# Altium footprint library ALTAIR_PD_ChipPassives.PcbLib: 20 footprints (part 2 of 2)
Each footprint in its own frame and in the unit in brackets; x right, y up, seen from the top. Pads: shape width x height; smd on the part's side, far side on the other; paste and mask are expansions set on the pad; w line width, h text height; cw(c..) or ccw(c..) is an arc to the next point about the centre after c.
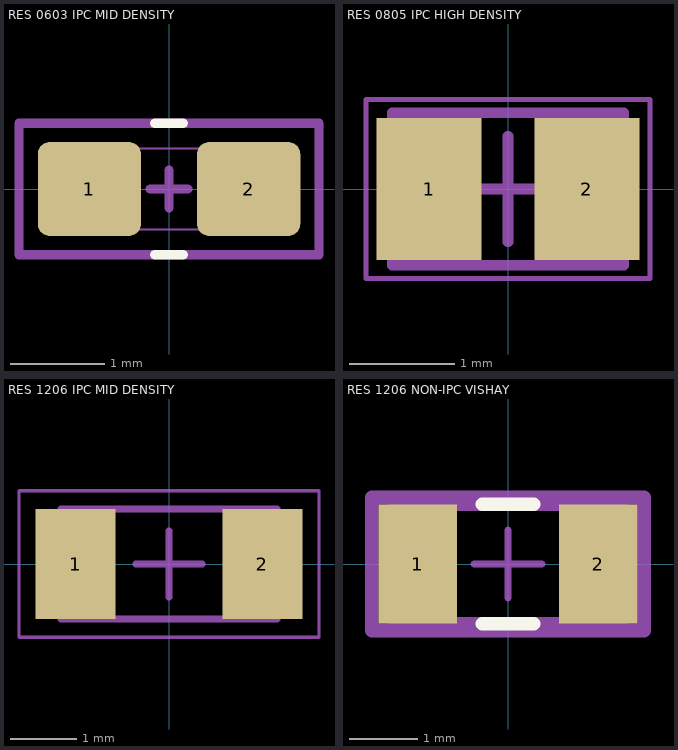
[diagram p1: the footprints below, top view; thin cyan lines are the x and y axes]

## RES 0603 IPC MID DENSITY [mm]
pads (2):
  rrect25% 1.1x1 smd: 1(-0.85,0) 2(0.85,0)
Top Overlay:
  lines w0.1: -0.151,-0.7 0.151,-0.7 ; -0.151,0.7 0.151,0.7
Bottom Assembly:
  lines w0.025: -0.787,-0.432 -0.787,0.432 0.787,0.432 0.787,-0.432 -0.787,-0.432
Mechanical 15:
  lines w0.1: -0.2,0 0.2,0 ; 0,-0.2 0,0.2 ; -1.6,-0.7 1.6,-0.7 1.6,0.7 -1.6,0.7 -1.6,-0.7
3D body "RES0603.STEP": height 0.44, standoff -0.02, extent -0.775,-0.43 0.775,0.43

## RES 0805 IPC HIGH DENSITY [mm] "Chip Resistor, 2-Leads, Body 2.00x1.25mm, IPC High Density"
height 0.6
pads (2):
  rect 1x1.35 smd: 1(-0.75,0) 2(0.75,0)
Mechanical 13:
  lines w0.1: -1.1,-0.725 1.1,-0.725 1.1,0.725 -1.1,0.725 -1.1,-0.725
Mechanical 15:
  lines w0.05: -1.35,-0.85 1.35,-0.85 1.35,0.85 -1.35,0.85 -1.35,-0.85
  lines w0.1: -0.5,0 0.5,0 ; 0,-0.5 0,0.5
3D body: height 0.6, standoff 0, extent 0.7,-0.725 1.1,0.725
3D body: height 0.6, standoff 0, extent -1.1,-0.725 -0.7,0.725
3D body: height 0.6, standoff 0, extent -0.7,-0.725 0.7,0.725

## RES 1206 IPC MID DENSITY [mm] "Chip Resistor, 2-Leads, Body 3.13x1.55mm, IPC Medium Density"
height 0.7
pads (2):
  rect 1.2x1.65 smd: 1(-1.4,0) 2(1.4,0)
Mechanical 13:
  lines w0.1: -1.625,-0.825 -1.625,0.825 1.625,0.825 1.625,-0.825 -1.625,-0.825
Mechanical 15:
  lines w0.05: -2.25,-1.1 -2.25,1.1 2.25,1.1 2.25,-1.1 -2.25,-1.1
  lines w0.1: -0.5,0 0.5,0 ; 0,-0.5 0,0.5
3D body "1206 resistor.STEP": height 0.6, standoff 0, extent -1.6,-0.8 1.6,0.8

## RES 1206 NON-IPC VISHAY [mm]
pads (2):
  rect 1.15x1.75 smd paste+0 mask+0: 1(-1.325,0) 2(1.325,0)
Top Overlay:
  lines w0.2: -0.375,-0.875 0.375,-0.875 ; -0.375,0.875 0.375,0.875
Top Assembly:
  lines w0.2: -2,-0.975 -2,0.975 2,0.975 2,-0.975 -2,-0.975
  text ".Designator" at 0,0.188 h1
Top Courtyard:
  lines w0.2: -2,-0.975 -2,0.975 2,0.975 2,-0.975 -2,-0.975
Top 3D Body:
  lines w0.2: -1.65,-0.875 -1.65,0.875 1.65,0.875 1.65,-0.875 -1.65,-0.875
Top Component Center:
  lines w0.1: -0.5,0 0.5,0 ; 0,-0.5 0,0.5
3D body "Res_Vishay_MCA12060D1541BP100_eec.STEP": height 0.65, standoff 0, extent -1.6,-0.8 1.6,0.8